# Altium schematic symbol library qspi_memories.SchLib: 1 symbol
Pins are listed as number, name and electrical type; pins without a type are passive.

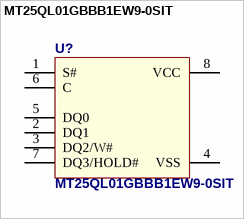
[diagram p0: symbol MT25QL01GBBB1EW9-0SIT]

## MT25QL01GBBB1EW9-0SIT
designator U?
128Mb, 3V, Multiple I/O Serial Flash Memory, Quad/Dual; Manuf_Part_1: N25Q128A13EF840E; Manuf_1: MICRON; Manuf_Part_2: N25Q256A13EF840E; Manuf_Part_3: N25Q512A13EF840E; ECCN_US/EU: 3A991/NEC; Order: N25Q128A13EF840F-ND; Provided: ST; Ref St: 9171973; Distrib: MICRON
footprint V-PDFN-8 8x6
pins: 1 S#, 2 DQ1, 3 DQ2/W#, 4 VSS, 5 DQ0, 6 C, 7 DQ3/HOLD#, 8 VCC
1 alternate drawing of the same symbol